# Altium integrated library UmbilicalBoardV3.IntLib: 32 symbols
Pins are listed as number, name and electrical type; pins without a type are passive.

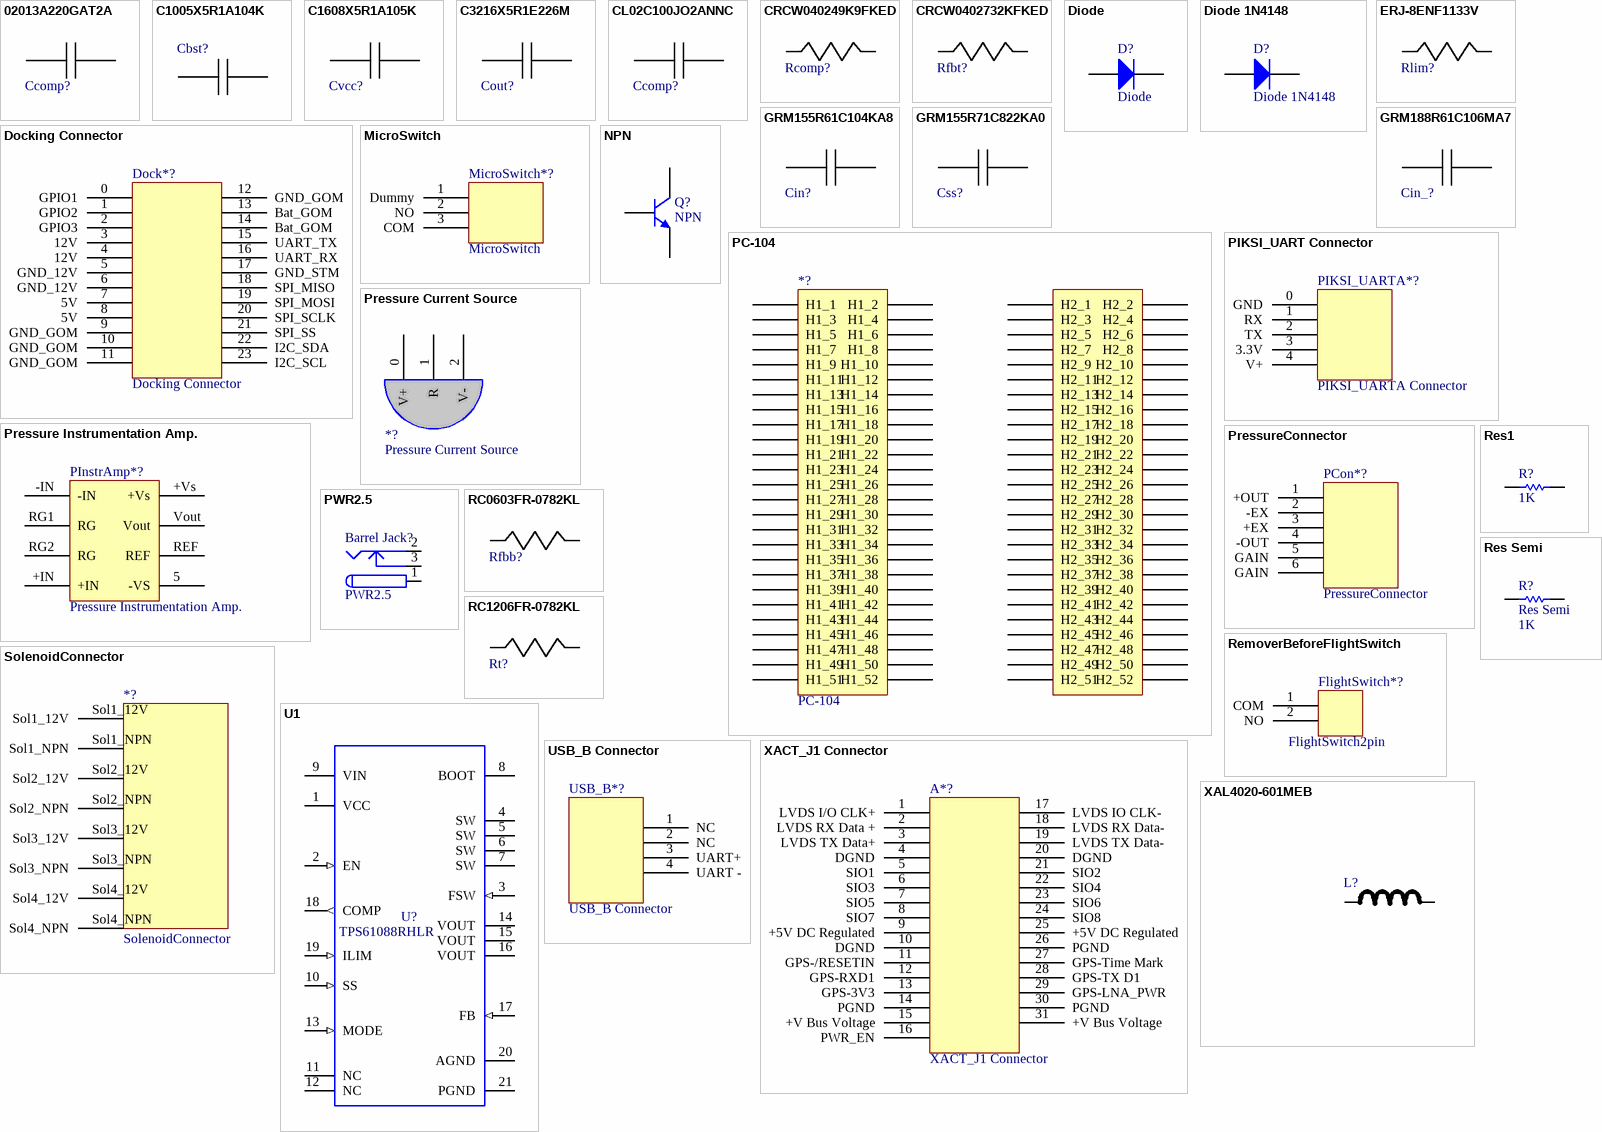
[diagram p0: symbols 02013A220GAT2A to XAL4020-601MEB]

## 02013A220GAT2A
designator Ccomp?  (value not drawn)
Imported; Vendor: AVX; Value: 220pF; Manufacturer_Part_Number: 02013A220GAT2A; RefDes: RefDes; TYPE: TYPE
footprint 0201
pins: 1, 2

## C1005X5R1A104K
designator Cbst?  (value not drawn)
Imported; Vendor: TDK; Value: 100nF; Manufacturer_Part_Number: C1005X5R1A104K; RefDes: RefDes; TYPE: TYPE
footprint 1005
pins: 1, 2

## C1608X5R1A105K
designator Cvcc?  (value not drawn)
Imported; Vendor: TDK; Value: 1uF; Manufacturer_Part_Number: C1608X5R1A105K; RefDes: RefDes; TYPE: TYPE
footprint 1608
pins: 1, 2

## C3216X5R1E226M
designator Cout?  (value not drawn)
Imported; Vendor: TDK; Value: 22uF; Manufacturer_Part_Number: C3216X5R1E226M; RefDes: RefDes; TYPE: TYPE
footprint 1206
footprint 1005
pins: 1, 2

## CL02C100JO2ANNC
designator Ccomp?  (value not drawn)
Imported; Vendor: Samsung Electro-Mechanics; Value: 10pF; Manufacturer_Part_Number: CL02C100JO2ANNC; RefDes: RefDes; TYPE: TYPE
footprint 01005
pins: 1, 2

## CRCW040249K9FKED
designator Rcomp?  (value not drawn)
Imported; Res_ohm: 49900; Power_W: 0.063; PartNumber: CRCW040249K9FKED; RefDes: RefDes; TYPE: TYPE; Value: Value
footprint 0402
pins: 1, 2

## CRCW0402732KFKED
designator Rfbt?  (value not drawn)
Imported; Vendor: Vishay-Dale; Value: 732000; Manufacturer_Part_Number: CRCW0402732KFKED; RefDes: RefDes; TYPE: TYPE
footprint 0402
pins: 1, 2

## Diode
designator D?
Default Diode; Published: 8-Jun-2000; LatestRevisionDate: 17-Jul-2002; LatestRevisionNote: Re-released for DXP Platform.; PackageVersion: Sep-1996; PackageReference: SMC; Publisher: Altium Limited; PackageDescription: DO-214-AB/SMC; 2 C-Bend Leads; Body 7.9 x 5.9 mm, inc. leads (LxW); Code_JEDEC: DO-214-AB
footprint SMC (DO-214-AB/SMC; 2 C-Bend Leads; Body 7.9 x 5.9 mm, inc. leads (LxW))
simulation model DIODE (Diode)
signal-integrity model Diode
pins: 1 A, 2 K

## Diode 1N4148
designator D?
High Conductance Fast Diode; Published: 8-Jun-2000; LatestRevisionDate: 17-Jul-2002; LatestRevisionNote: Re-released for DXP Platform.; DatasheetVersion: 1997; PackageReference: DO-35; Publisher: Altium Limited; PackageDescription: Diode, Axial; Body 3.8 x 1.9 mm (LxDia. max), Lead Dia. 0.53 mm (max); Code_JEDEC: DO-204-AH; ComponentLink1Description: Manufacturer Link; ComponentLink1URL: http://www.fairchildsemi.com/; ComponentLink2Description: Datasheet; ComponentLink2URL: http://www.fairchildsemi.com/ds/1N%2F1N4148.pdf
footprint DO-35 (Diode, Axial; Body 3.8 x 1.9 mm (LxDia. max), Lead Dia. 0.53 mm (max))
simulation model 1N4148 (DIODE)
signal-integrity model 1N4148
pins: 1 A, 2 K

## Docking Connector
designator Dock*?
24 Pin Connector
footprint Docking Connector (Footprint not found)
pins: 0 GPIO1, 1 GPIO2, 2 GPIO3, 3 12V, 4 12V, 5 GND_12V "from 12V supply", 6 GND_12V "from 12V supply", 7 5V, 8 5V, 9 GND_GOM "from GOM Space EPU", 10 GND_GOM "from GOM Space EPU", 11 GND_GOM "from GOM Space EPU", 12 GND_GOM "from GOM Space EPU", 13 Bat_GOM "Battery Voltage from GOM Space EPU", 14 Bat_GOM "Battery Voltage from GOM Space EPU", 15 UART_TX, 16 UART_RX, 17 GND_STM "from STM", 18 SPI_MISO, 19 SPI_MOSI, 20 SPI_SCLK, 21 SPI_SS, 22 I2C_SDA, 23 I2C_SCL

## ERJ-8ENF1133V
designator Rlim?  (value not drawn)
Imported; Vendor: Panasonic; Value: 113000; Manufacturer_Part_Number: ERJ-8ENF1133V; RefDes: RefDes; TYPE: TYPE
footprint 1206
pins: 1, 2

## GRM155R61C104KA8
designator Cin?  (value not drawn)
Imported; Manufacturer_Part_Number: GRM155R61C104KA88D; Vendor: MuRata; Value: 100nF; RefDes: RefDes; TYPE: TYPE
footprint 0402
pins: 1, 2

## GRM155R71C822KA0
designator Css?  (value not drawn)
Imported; Manufacturer_Part_Number: GRM155R71C822KA01D; Vendor: MuRata; Value: 8.2nF; RefDes: RefDes; TYPE: TYPE
footprint 0402
pins: 1, 2

## GRM188R61C106MA7
designator Cin_?  (value not drawn)
Imported; Manufacturer_Part_Number: GRM188R61C106MA73D; Cap: 1.0E-5; ESR: 0; VDC: 16; Vendor: Murata; Value: 10uF; IRMS: 0; RefDes: RefDes; TYPE: TYPE
footprint 0603
pins: 1, 2

## MicroSwitch
designator MicroSwitch*?
Omron Electronics Inc-EMC Div D2FS-FL-N-A1
footprint MicroSwitch_3pin (Footprint not found)
pins: 1 Dummy, 2 NO, 3 COM

## NPN
designator Q?
NPN Bipolar Transistor; Published: 8-Jun-2000; LatestRevisionDate: 17-Jul-2002; LatestRevisionNote: Re-released for DXP Platform.; PackageReference: TO-226-AA; Publisher: Altium Limited; PackageDescription: TO, Flat Index; 3 In-Line, Axial Leads; Body Dia. 4.8mm; Leads 0.55 x 0.51 mm (max); Code_JEDEC: TO-226-AA
footprint TO-226-AA (TO, Flat Index; 3 In-Line, Axial Leads; Body Dia. 4.8mm; Leads 0.55 x 0.51 mm (max))
simulation model NPN
signal-integrity model NPN
footprint TO-92 (TO, Flat Index; 3 In-Line, Axial Leads; Body Dia. 4.6mm; Leads 0.41 x 0.39 mm (max))
pins: 1 C, 2 B, 3 E

## PC-104
designator *?
footprint PC-104FOOTPRINT
pins: H1_1, H1_2, H1_3, H1_4, H1_5, H1_6, H1_7, H1_8, H1_9, H1_10, H1_11, H1_12, H1_13, H1_14, H1_15, H1_16, H1_17, H1_18, H1_19, H1_20, H1_21, H1_22, H1_23, H1_24, H1_25, H1_26, H1_27, H1_28, H1_29, H1_30, H1_31, H1_32, H1_33, H1_34, H1_35, H1_36, H1_37, H1_38, H1_39, H1_40, H1_41, H1_42, H1_43, H1_44, H1_45, H1_46, H1_47, H1_48, H1_49, H1_50, H1_51, H1_52, H2_1, H2_2, H2_3, H2_4, H2_5, H2_6, H2_7, H2_8, H2_9, H2_10, H2_11, H2_12, H2_13, H2_14, H2_15, H2_16, H2_17, H2_18, H2_19, H2_20, H2_21, H2_22, H2_23, H2_24, H2_25, H2_26, H2_27, H2_28, H2_29, H2_30, H2_31, H2_32, H2_33, H2_34, H2_35, H2_36, H2_37, H2_38, H2_39, H2_40, H2_41, H2_42, H2_43, H2_44, H2_45, H2_46, H2_47, H2_48, H2_49, H2_50, H2_51, H2_52

## PIKSI_UART Connector
designator PIKSI_UARTA*?, comment PIKSI_UARTA Connector
Molex Picoblade 5 Pin
footprint Molex Picoblade 5 Pin (Molex Picoblade Header, SMT, Right Angle)
pins: 0 GND, 1 RX, 2 TX, 3 3.3V, 4 V+

## Pressure Current Source
designator *?
footprint Pressure Current Source (LM234Z-3/NOPB (TO-92 package))
pins: 0 V+, 1 R, 2 V-

## Pressure Instrumentation Amp.
designator PInstrAmp*?
footprint Pressure Instrumentation Amp. (INA826AIDGKR)
pins: 5 -VS, +IN, +Vs, -IN, REF, RG1 RG, RG2 RG, Vout

## PressureConnector
designator PCon*?
Molex 70553-0005
footprint Pressure Transducer (Footprint not found)
pins: 1 +OUT, 2 -EX, 3 +EX, 4 -OUT, 5 GAIN, 6 GAIN

## PWR2.5
designator Barrel Jack?
Low Voltage Power Supply Connector; Published: 17-Dec-2003; DatasheetDocument: 09-May-2002; Publisher: Altium Limited; ComponentLink1Description: Manufacturer Link; ComponentLink1URL: http://domino.kycon.com/internet/Products.html
footprint KLD-0202 (DC Power Jack, 2.5mm, KLD Series, PCB Mount)
signal-integrity model Connector
pins: 1 (power), 1A (power), 1B (power), 2 (power), 2A (power), 2B (power), 3 (power), 3A (power), 3B (power)

## RC0603FR-0782KL
designator Rfbb?  (value not drawn)
Imported; Vendor: Yageo America; Value: 82000; Manufacturer_Part_Number: RC0603FR-0782KL; RefDes: RefDes; TYPE: TYPE
footprint 0603
footprint 0603
pins: 1, 2

## RC1206FR-0782KL
designator Rt?  (value not drawn)
Imported; Vendor: Yageo America; Value: 82000; Manufacturer_Part_Number: RC1206FR-0782KL; RefDes: RefDes; TYPE: TYPE
footprint 1206
pins: 1, 2

## RemoverBeforeFlightSwitch
designator FlightSwitch*?, comment FlightSwitch2pin
53048-0210 Molex Picoblade
footprint RemoverBeforeFlight Switch (Molex Picoblade Part Number: 53048-0210)
pins: 1 COM, 2 NO

## Res1
designator R?  value 1K  (hidden comment: Res1)
Resistor; Published: 8-Jun-2000; LatestRevisionDate: 17-Jul-2002; LatestRevisionNote: Re-released for DXP Platform.; PackageReference: AXIAL-0.3; Publisher: Altium Limited; PackageDescription: Axial Device, Thru-Hole; 2 Leads; 0.3 in Pin Spacing
footprint AXIAL-0.3 (Axial Device, Thru-Hole; 2 Leads; 0.3 in Pin Spacing)
simulation model RESISTOR (Resistor)
signal-integrity model Res
footprint 0402
footprint 0402
pins: 1, 2

## Res Semi
designator R?  value 1K
Semiconductor Resistor; Published: 8-Jun-2000; LatestRevisionDate: 17-Jul-2002; LatestRevisionNote: Re-released for DXP Platform.; PackageReference: AXIAL-0.5; Publisher: Altium Limited; PackageDescription: Axial Device, Thru-Hole; 2 Leads; 0.5 in Pin Spacing
footprint AXIAL-0.5 (Axial Device, Thru-Hole; 2 Leads; 0.5 in Pin Spacing)
simulation model RES (Semiconductor Resistor)
signal-integrity model Res Semi
pins: 1, 2

## SolenoidConnector
designator *?
Connector for 4 Solenoids
footprint Solenoids 8Pin Right Angle (New Solenoid 8 Pin. Part Number: 172310-1108)
pins: Sol1_12V, Sol1_NPN, Sol2_12V, Sol2_NPN, Sol3_12V, Sol3_NPN, Sol4_12V, Sol4_NPN

## U1
designator U?, comment TPS61088RHLR
Manufacturer Name: Texas Instruments; Value: UNLISTED; PackageReference: TPS61088RHLR; Manufacturer Part Number: TPS61088RHLR
footprint RHL0020A
pins: 1 VCC (power), 2 EN (in), 3 FSW (in), 4 SW (power), 5 SW (power), 6 SW (power), 7 SW (power), 8 BOOT (power), 9 VIN (power), 10 SS (in), 11 NC, 12 NC, 13 MODE (in), 14 VOUT (power), 15 VOUT (power), 16 VOUT (power), 17 FB (in), 18 COMP (out), 19 ILIM (in), 20 AGND (power), 21 PGND (power)

## USB_B Connector
designator USB_B*?
footprint USB_B Connector (Footprint not found)
pins: 1 NC, 2 NC, 3 UART+, 4 UART -

## XACT_J1 Connector
designator A*?
31 Pin Airborn Nano Connector
footprint Airborn Nano (Footprint not found)
footprint Airborn Nano (Footprint not found)
pins: 1 LVDS I/O CLK+, 2 LVDS RX Data +, 3 LVDS TX Data+, 4 DGND "+5 VDC Return", 5 SIO1, 6 SIO3, 7 SIO5, 8 SIO7, 9 +5V DC Regulated, 10 DGND "+5 V DC Return", 11 GPS-/RESETIN, 12 GPS-RXD1, 13 GPS-3V3 "3.3V power to GPS", 14 PGND "12V return", 15 +V Bus Voltage "+12 V Unregulated", 16 PWR_EN "Input, 3.3V max", 17 LVDS IO CLK-, 18 LVDS RX Data-, 19 LVDS TX Data-, 20 DGND "+5V DC Return", 21 SIO2, 22 SIO4, 23 SIO6, 24 SIO8, 25 +5V DC Regulated, 26 PGND "+12V return", 27 GPS-Time Mark, 28 GPS-TX D1, 29 GPS-LNA_PWR "12V Unregulated to GPS", 30 PGND "+12V return", 31 +V Bus Voltage "+12 V Unregualated"

## XAL4020-601MEB
designator L?  (value not drawn)
Imported; Vendor: Coilcraft; Value: 600nH; Manufacturer_Part_Number: XAL4020-601MEB; RefDes: RefDes; TYPE: TYPE
footprint XAL4020
pins: 1, 2